# Altium footprint library SN74LS373N.PcbLib: 1 footprints
Each footprint in its own frame and in the unit in brackets; x right, y up, seen from the top. Pads: shape width x height; smd on the part's side, far side on the other; paste and mask are expansions set on the pad; w line width, h text height; cw(c..) or ccw(c..) is an arc to the next point about the centre after c.
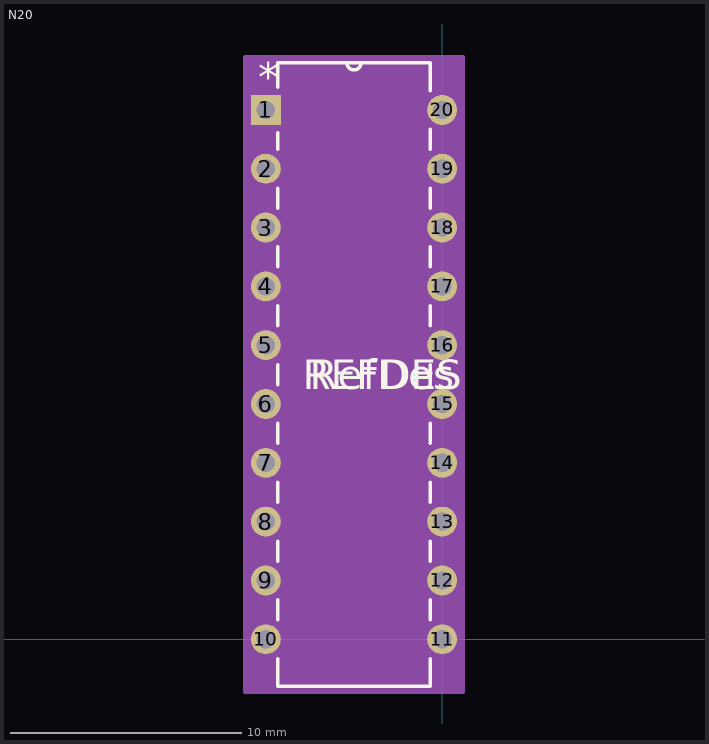
[diagram p0: the footprint, top view; thin cyan lines are the x and y axes]

## N20 [mil]
pads (20):
  rect 51x51 / inner round 60 / far side rect 51x51 hole 31 paste-99999 mask-25.5: 1(-300,900)
  round 51 / inner round 60 / far side round 51 hole 31 paste-99999 mask-25.5: 2(-300,800) 3(-300,700) 4(-300,600) 5(-300,500) 6(-300,400) 7(-300,300) 8(-300,200) 9(-300,100) 10(-300,0) 11(0,0) 12(0,100) 13(0,200) 14(0,300) 15(0,400) 16(0,500) 17(0,600) 18(0,700) 19(0,800) 20(0,900)
Top Overlay:
  lines w6: -280,-33.01 -280,-80 -20,-80 -20,-33.01 ; -280,33.01 -280,66.99 ; -280,133.01 -280,166.99 ; -280,233.01 -280,266.99 ; -280,333.01 -280,366.99 ; -280,433.01 -280,466.99 ; -280,533.01 -280,566.99 ; -280,633.01 -280,666.99 ; -280,733.01 -280,766.99 ; -280,833.01 -280,861.4 ; -280,938.6 -280,980 -20,980 -20,933.01 ; -162,980 ccw(c-150,980) -138,980 ; -20,33.01 -20,66.99 ; -20,133.01 -20,166.99 ; -20,233.01 -20,266.99 ; -20,333.01 -20,366.99 ; -20,433.01 -20,466.99 ; -20,533.01 -20,566.99 ; -20,633.01 -20,666.99 ; -20,733.01 -20,766.99 ; -20,833.01 -20,866.99
  text "*" at -312.5,930.5 h50
  text "RefDes" at -225,425 h50
  text "REFDES" at -237.5,425 h50
Mechanical 13:
  lines w0: -162,980 ccw(c-150,980) -138,980
  lines w1: -315.5,-15.5 -315.5,15.5 -280,15.5 -280,-15.5 -315.5,-15.5 ; -315.5,84.5 -315.5,115.5 -280,115.5 -280,84.5 -315.5,84.5 ; -315.5,184.5 -315.5,215.5 -280,215.5 -280,184.5 -315.5,184.5 ; -315.5,284.5 -315.5,315.5 -280,315.5 -280,284.5 -315.5,284.5 ; -315.5,384.5 -315.5,415.5 -280,415.5 -280,384.5 -315.5,384.5 ; -315.5,484.5 -315.5,515.5 -280,515.5 -280,484.5 -315.5,484.5 ; -315.5,584.5 -315.5,615.5 -280,615.5 -280,584.5 -315.5,584.5 ; -315.5,684.5 -315.5,715.5 -280,715.5 -280,684.5 -315.5,684.5 ; -315.5,784.5 -315.5,815.5 -280,815.5 -280,784.5 -315.5,784.5 ; -315.5,884.5 -315.5,915.5 -280,915.5 -280,884.5 -315.5,884.5 ; -280,-80 -20,-80 -20,980 -280,980 -280,-80 ; -20,-15.5 -20,15.5 15.5,15.5 15.5,-15.5 -20,-15.5 ; -20,84.5 -20,115.5 15.5,115.5 15.5,84.5 -20,84.5 ; -20,184.5 -20,215.5 15.5,215.5 15.5,184.5 -20,184.5 ; -20,284.5 -20,315.5 15.5,315.5 15.5,284.5 -20,284.5 ; -20,384.5 -20,415.5 15.5,415.5 15.5,384.5 -20,384.5 ; -20,484.5 -20,515.5 15.5,515.5 15.5,484.5 -20,484.5 ; -20,584.5 -20,615.5 15.5,615.5 15.5,584.5 -20,584.5 ; -20,684.5 -20,715.5 15.5,715.5 15.5,684.5 -20,684.5 ; -20,784.5 -20,815.5 15.5,815.5 15.5,784.5 -20,784.5 ; -20,884.5 -20,915.5 15.5,915.5 15.5,884.5 -20,884.5
  text "*" at -312.5,930.5 h50
  text "RefDes2" at -237.5,425 h50
Mechanical 15:
  region: 35.5,-90 -335.5,-90 -335.5,990 35.5,990
  lines w6: -335.5,-90 35.5,-90 35.5,990 -335.5,990 -335.5,-90
3D body "N20.step": height 205.12, standoff -100, extent -310,-80 10,980